# Altium footprint library SRP7028A-6R8M.PcbLib: 3 footprints
Each footprint in its own frame and in the unit in brackets; x right, y up, seen from the top. Pads: shape width x height; smd on the part's side, far side on the other; paste and mask are expansions set on the pad; w line width, h text height; cw(c..) or ccw(c..) is an arc to the next point about the centre after c.
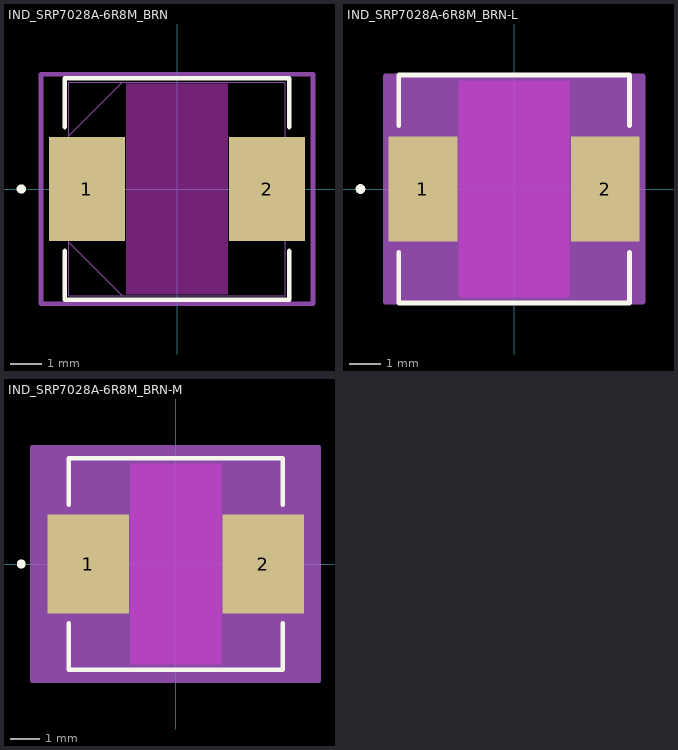
[diagram p0: the footprints below, top view; thin cyan lines are the x and y axes]

## IND_SRP7028A-6R8M_BRN [mm]
pads (2):
  rect 2.458x3.352 smd paste+0 mask+0.05: 1(-2.918,0) 2(2.918,0)
Top Layer keep-out:
  region: -1.638,-3.404 -1.638,3.404 1.638,3.404 1.638,-3.404
Top Overlay:
  circle w0.152: c-5.036,0 r0.076
  lines w0.152: -3.632,-2.009 -3.632,-3.581 3.632,-3.581 3.632,-2.009 ; -3.632,2.009 -3.632,3.581 3.632,3.581 3.632,2.009
Keep-Out Layer:
  region: -1.638,-3.404 -1.638,3.404 1.638,3.404 1.638,-3.404
Mechanical 13:
  circle w0: c-2.918,0 r0.076
  lines w0.025: -3.505,-1.727 -1.778,-3.454 ; -3.505,1.727 -1.778,3.454 ; -3.797,-1.651 -3.797,1.651 -3.505,1.651 -3.505,-1.651 -3.797,-1.651 ; -3.505,-3.454 3.505,-3.454 3.505,3.454 -3.505,3.454 -3.505,-3.454 ; 3.505,-1.651 3.505,1.651 3.797,1.651 3.797,-1.651 3.505,-1.651
Mechanical 15:
  lines w0.152: -4.401,-3.708 -4.401,3.708 4.401,3.708 4.401,-3.708 -4.401,-3.708

## IND_SRP7028A-6R8M_BRN-L [mm]
pads (2):
  rect 2.158x3.312 smd paste+0 mask+0: 1(-2.868,0) 2(2.868,0)
Top Layer keep-out:
  region: -1.738,-3.404 -1.738,3.404 1.738,3.404 1.738,-3.404
Top Overlay:
  circle w0.152: c-4.836,0 r0.076
  lines w0.152: -3.632,-1.989 -3.632,-3.581 3.632,-3.581 3.632,-1.989 ; -3.632,1.989 -3.632,3.581 3.632,3.581 3.632,1.989
Keep-Out Layer:
  region: -1.738,-3.404 -1.738,3.404 1.738,3.404 1.738,-3.404
Mechanical 13:
  circle w0: c-2.868,0 r0.076
  lines w0.025: -3.505,-1.727 -1.778,-3.454 ; -3.505,1.727 -1.778,3.454 ; -3.797,-1.651 -3.797,1.651 -3.505,1.651 -3.505,-1.651 -3.797,-1.651 ; -3.505,-3.454 3.505,-3.454 3.505,3.454 -3.505,3.454 -3.505,-3.454 ; 3.505,-1.651 3.505,1.651 3.797,1.651 3.797,-1.651 3.505,-1.651
Mechanical 15:
  region: 4.049,-3.556 -4.049,-3.556 -4.049,3.556 4.049,3.556
  lines w0.152: -4.049,-3.556 -4.049,3.556 4.049,3.556 4.049,-3.556 -4.049,-3.556

## IND_SRP7028A-6R8M_BRN-M [mm]
pads (2):
  rect 2.758x3.352 smd paste+0 mask+0: 1(-2.968,0) 2(2.968,0)
Top Layer keep-out:
  region: -1.538,-3.404 -1.538,3.404 1.538,3.404 1.538,-3.404
Top Overlay:
  circle w0.152: c-5.236,0 r0.076
  lines w0.152: -3.632,-2.009 -3.632,-3.581 3.632,-3.581 3.632,-2.009 ; -3.632,2.009 -3.632,3.581 3.632,3.581 3.632,2.009
Keep-Out Layer:
  region: -1.538,-3.404 -1.538,3.404 1.538,3.404 1.538,-3.404
Mechanical 13:
  circle w0: c-2.968,0 r0.076
  lines w0.025: -3.505,-1.727 -1.778,-3.454 ; -3.505,1.727 -1.778,3.454 ; -3.797,-1.651 -3.797,1.651 -3.505,1.651 -3.505,-1.651 -3.797,-1.651 ; -3.505,-3.454 3.505,-3.454 3.505,3.454 -3.505,3.454 -3.505,-3.454 ; 3.505,-1.651 3.505,1.651 3.797,1.651 3.797,-1.651 3.505,-1.651
Mechanical 15:
  region: 4.855,-3.962 -4.855,-3.962 -4.855,3.962 4.855,3.962
  lines w0.152: -4.855,-3.962 -4.855,3.962 4.855,3.962 4.855,-3.962 -4.855,-3.962